# Altium schematic symbol library connectors.SchLib: 8 symbols
Pins are listed as number, name and electrical type; pins without a type are passive.

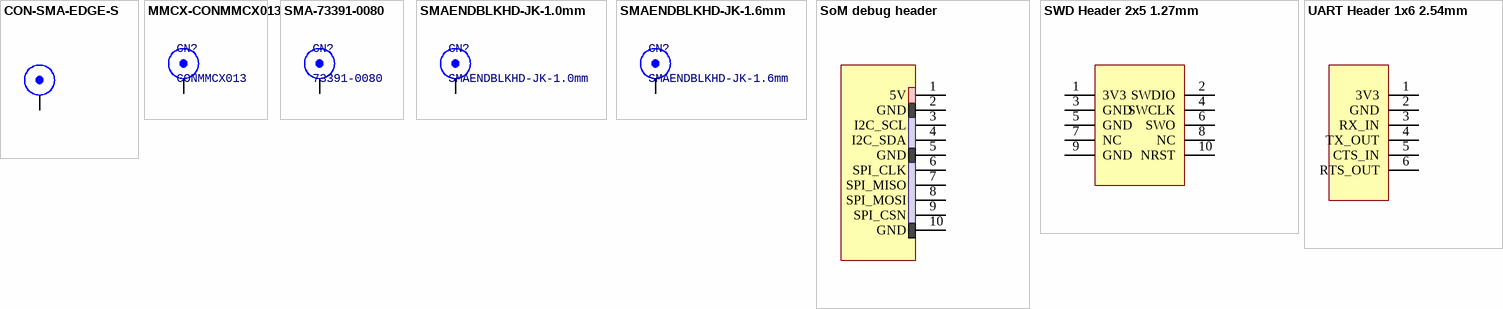
[diagram p0: symbols CON-SMA-EDGE-S to UART Header 1x6 2.54mm]

## CON-SMA-EDGE-S
designator CN?  (value not drawn)
footprint CON-SMA-EDGE-S
pins: 1 SIGNAL, 2 GND

## MMCX-CONMMCX013
designator CN?, comment CONMMCX013
MMCX Jack PCB Cutout Edge Mount Connector 0 to 8.5 GHz operation MMCX (female socket) connection
footprint CONMMCX013 (Linx technologies CONMMCX013 MMCX Jack PCB Cutout Edge Mount Connector)
pins: 1 SIGNAL, 2 GND

## SMA-73391-0080
designator CN?, comment 73391-0080
SMD SMA compatible footprint
footprint Molex SMA 73391-0080 (SMA JACK R/A PCB TH 50 OHMS SMA-J/PCB)
pins: 1 SIGNAL, 2 GND

## SMAENDBLKHD-JK-1.0mm
designator CN?
SMA Jack End female coaxial connector 1.0mm
pins: 1 SIGNAL, 2 GND

## SMAENDBLKHD-JK-1.6mm
designator CN?
SMA Jack End female coaxial connector 1.6mm
pins: 1 SIGNAL, 2 GND

## SoM debug header
designator CN?
Specific debug port for the LoRa gateway SoM
footprint header 1x10 2.54mm (header 1x10 2.54mm pitch)
pins: 1 5V (power), 2 GND (power), 3 I2C_SCL, 4 I2C_SDA, 5 GND (power), 6 SPI_CLK, 7 SPI_MISO, 8 SPI_MOSI, 9 SPI_CSN, 10 GND (power)

## SWD Header 2x5 1.27mm
designator CN?, comment FTSH-105-L-DV 2x5 1.27mm  (value not drawn)
Samtec FTSH-105-L-DV
footprint Samtec ftsh-105-l-dv
pins: 1 3V3, 2 SWDIO, 3 GND, 4 SWCLK, 5 GND, 6 SWO, 7 NC, 8 NC, 9 GND, 10 NRST

## UART Header 1x6 2.54mm
designator CN?, comment 1x6 2.54mm  (value not drawn)  (no BOM)
Header 1x6 2.54mm
footprint Header 1x6 2.54mm (Header 1x6 2.54mm THT for UART)
pins: 1 3V3 (power), 2 GND (power), 3 RX_IN, 4 TX_OUT, 5 CTS_IN, 6 RTS_OUT